# EAGLE library part IV-26 (library FHD-RETRO)
IV-26 (Type-1)
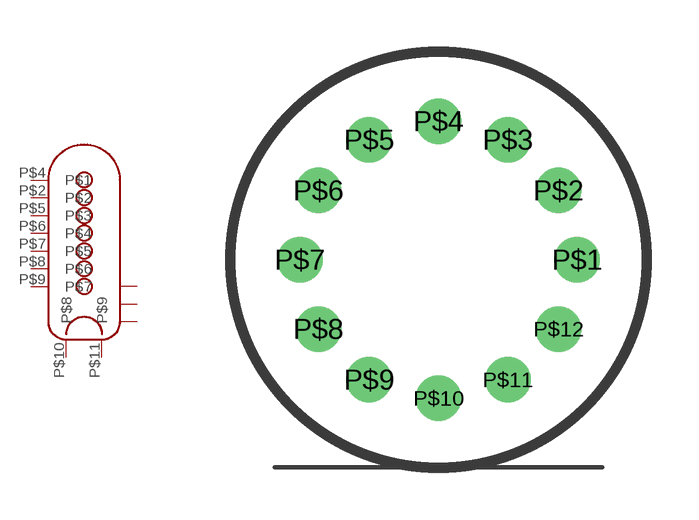
[diagram p5: symbol with the pads of IV-26; footprint IV-26]

Designator prefix -

## IV-26  [IV-26]
P$1  P$12  nc
P$2  P$2
P$3  P$11  nc
P$4  P$1
P$5  P$3
P$6  P$4
P$7  P$5
P$8  P$6
P$9  P$7
P$10  P$8
P$11  P$9
P$12  P$10  nc

## Footprint IV-26 (pad centres in mm)
IV-26 VFD Segment Footprint
drill 0.8: P$1 4,0; P$2 3.46,2; P$3 2,3.464; P$4 0,4; P$5 -2,3.464; P$6 -3.464,2; P$7 -4,0; P$8 -3.464,-2; P$9 -2,-3.464; P$10 0,-4; P$11 2,-3.464; P$12 3.464,-2